# Altium schematic symbol library GRM0335C1H101JA01D.SchLib: 1 symbol
Pins are listed as number, name and electrical type; pins without a type are passive.

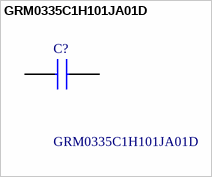
[diagram p0: symbol GRM0335C1H101JA01D]

## GRM0335C1H101JA01D
designator C?
Murata 0201 GRM 100pF Ceramic Multilayer Capacitor, 50 V, +125C, C0G Dielectric, +/-5% SMD; Manufacturer_Name: Murata Electronics; Geometry.Height: 0.33mm; Manufacturer_Part_Number: GRM0335C1H101JA01D; Mouser Part Number: 81-GRM0335C1H101JA1D; Mouser Price/Stock: https://www.mouser.co.uk/ProductDetail/Murata-Electronics/GRM0335C1H101JA01D?qs=J1R1puj4KiEwXjDNFkiMqg%3D%3D; Arrow Part Number: GRM0335C1H101JA01D; Arrow Price/Stock: https://www.arrow.com/en/products/grm0335c1h101ja01d/murata-manufacturing?region=nac; Datasheet Link: https://search.murata.co.jp/Ceramy/image/img/A01X/G101/ENG/GRM0335C1H101JA01-01A.pdf
footprint CAPC0603X33N
pins: 1, 2